# EAGLE library part NOKIA-JOY (library buttons)
Nokia 3250/6820/N73 Joystick
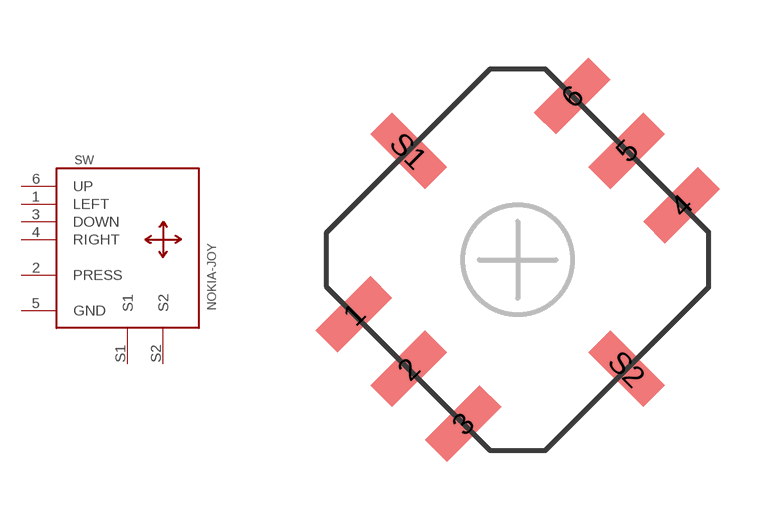
[diagram p2: symbol with the pads of NOKIA_JOY; footprint NOKIA_JOY]

Designator prefix SW

## NOKIA-JOY  [NOKIA_JOY]
1  LEFT  pas
2  PRESS  pas
3  DOWN  pas
4  RIGHT  pas
5  GND  pas
6  UP  pas
S1  S1  pas
S2  S2  pas

## Footprint NOKIA_JOY (pad centres in mm)
smd 2 x 0.8 rotated 45: 1 -4.243,-1.414; 2 -2.828,-2.828; 3 -1.414,-4.243; 4 4.243,1.414; 5 2.828,2.828; 6 1.414,4.243
smd 2 x 0.8 rotated 135: S1 -2.828,2.828; S2 2.828,-2.828